# EAGLE library part MCP23S08-X/SS (library microchip2)
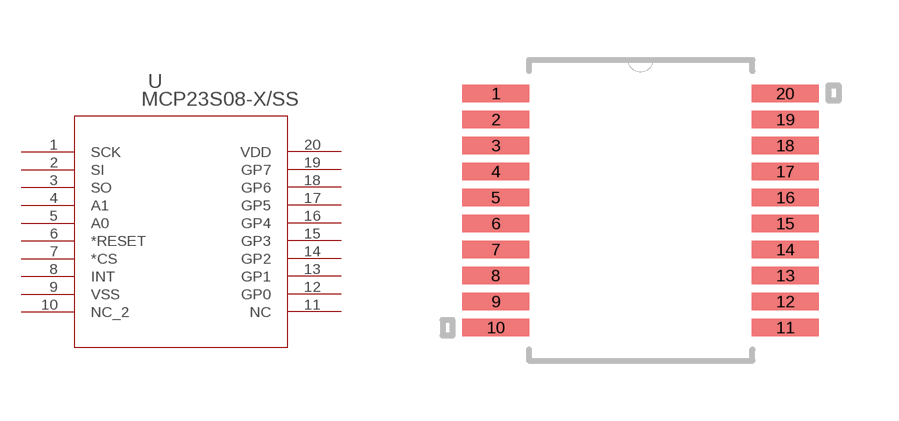
[diagram p4: symbol with the pads of SSOP20_MC; footprint SSOP20_MC]

Designator prefix -

## MCP23S08-X/SS  [SSOP20_MC]
1  SCK  pas
2  SI  pas
3  SO  pas
4  A1  pas
5  A0  pas
6  *RESET  pas
7  *CS  pas
8  INT  pas
9  VSS  pas
10  NC_2  pas
11  NC  pas
12  GP0  pas
13  GP1  pas
14  GP2  pas
15  GP3  pas
16  GP4  pas
17  GP5  pas
18  GP6  pas
19  GP7  pas
20  VDD  pas

## Footprint SSOP20_MC (pad centres in mm)
smd 1.676 x 0.432: 1 -3.617,2.925; 2 -3.617,2.275; 3 -3.617,1.625; 4 -3.617,0.975; 5 -3.617,0.325; 6 -3.617,-0.325; 7 -3.617,-0.975; 8 -3.617,-1.625; 9 -3.617,-2.275; 10 -3.617,-2.925; 11 3.617,-2.925; 12 3.617,-2.275; 13 3.617,-1.625; 14 3.617,-0.975; 15 3.617,-0.325; 16 3.617,0.325; 17 3.617,0.975; 18 3.617,1.625; 19 3.617,2.275; 20 3.617,2.925